# Altium footprint library VioletofSun.PcbLib: 319 footprints (part 15 of 20)
Each footprint in its own frame and in the unit in brackets; x right, y up, seen from the top. Pads: shape width x height; smd on the part's side, far side on the other; paste and mask are expansions set on the pad; w line width, h text height; cw(c..) or ccw(c..) is an arc to the next point about the centre after c.
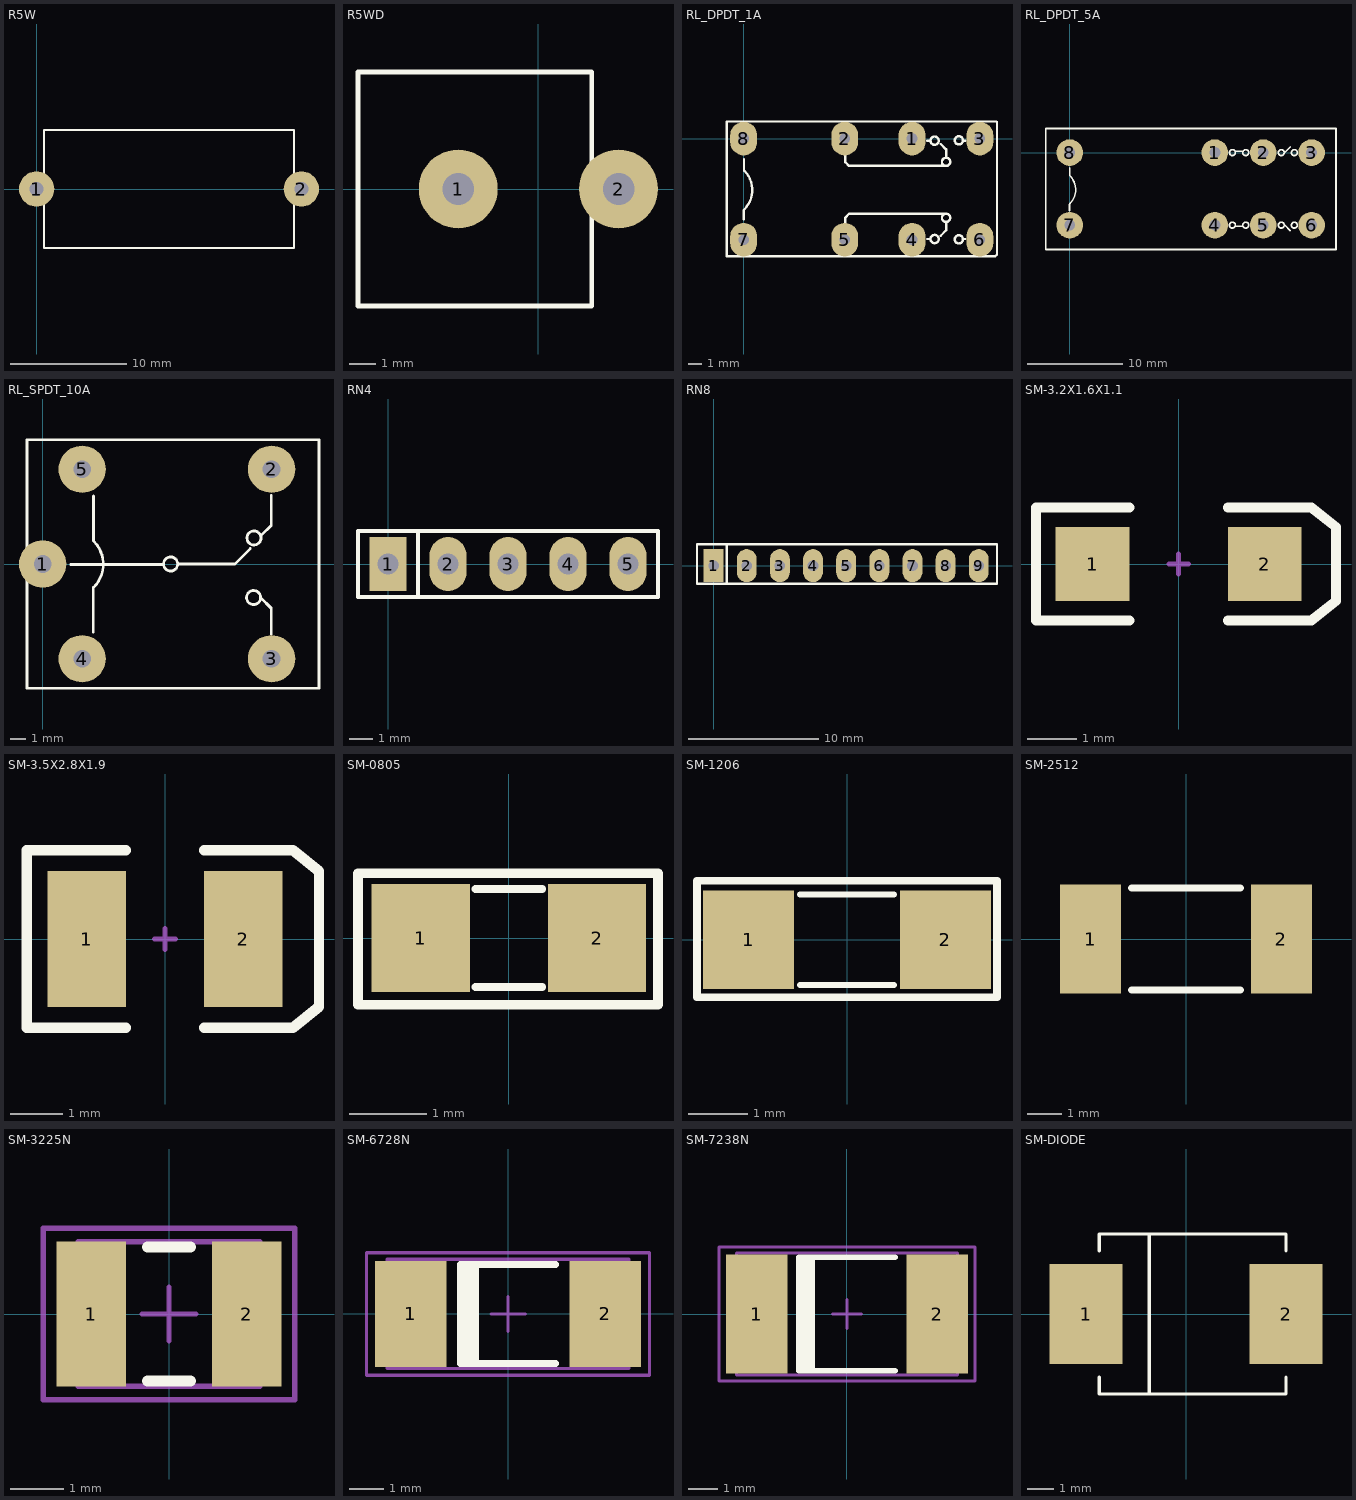
[diagram p14: the footprints below, top view; thin cyan lines are the x and y axes]

## R5W [mil] "R5W , 2 pin, 400 x 950mil"
height 400
pads (2):
  round 120 hole 47.24: 1(0,0) 2(900,0)
Top Overlay:
  lines w7: 25,-200 875,-200 875,200 25,200 25,-200
3D body: height 362.6, standoff -98.43, extent -84.69,-190 954.68,191.89

## R5WD [mm] "R5W , 2 pin, 300 x 600 mil"
height 10.16
pads (2):
  round 3 hole 1.2: 1(-3.048,0) 2(3.048,0)
Top Overlay:
  lines w0.178: -6.858,-4.445 -6.858,4.445 2.032,4.445 2.032,-4.445 -6.858,-4.445
3D body: height 23.05, standoff -2.4, extent -8.648,-5.08 4.432,4.92

## RL_DPDT_1A [mil] "Reley DPDT, 8 pin, 1A, W400mil, L800mil,H 300mil"
height 300
pads (8):
  oval 80x100 hole 32: 1(500,0) 2(300,0) 3(701,0) 4(500,-300) 5(300,-300) 6(701,-300) 7(0,-300) 8(0,0)
Top Overlay:
  circle w7: c638.76,-5 r12.24
  circle w7: c566.76,-6 r12.24
  circle w7: c600.76,-69 r12.24
  circle w7: c600.76,-235 r12.24
  circle w7: c566.76,-298 r12.24
  circle w7: c638.76,-299 r12.24
  lines w7: 0,-239 0,-212 ; 1,-211 ccw(c-56.5,-152.5) 2,-95 ; 1,-94 1,-61 ; 302,-255 302,-234 313,-223 599,-223 ; 302,-42 302,-70 313,-81 599,-81 ; 544,-298 552,-298 ; 544,-6 552,-6 ; 585,-288 601,-272 601,-249 ; 585,-16 601,-32 601,-55 ; 653,-298 658,-298 ; 653,-6 658,-6 ; -50,-349 747,-349 752,-344 752,49 750,51 -50,51 -50,-349
3D body: height 484.25, standoff -118.11, extent -59.45,-340 759.45,45.83

## RL_DPDT_5A [mil] "Reley DPDT, 8 pin, 5A, W500mil, L1100mil,H 950mil"
height 300
pads (8):
  round 110 hole 45: 1(600,0) 2(800,0) 3(1000,0) 4(600,-300) 5(800,-300) 6(1000,-300) 7(0,-300) 8(0,0)
Top Overlay:
  circle w7: c928.76,0 r12.24
  circle w7: c874.76,0 r12.24
  circle w7: c727.76,0 r12.24
  circle w7: c672.76,0 r12.24
  circle w7: c672.76,-300 r12.24
  circle w7: c727.76,-300 r12.24
  circle w7: c874.76,-300 r12.24
  circle w7: c928.76,-300 r12.24
  lines w7: -1,-240 -1,-213 ; 0,-212 ccw(c-57.5,-153.5) 1,-96 ; 0,-95 0,-62 ; 687,-305 716,-305 ; 687,5 716,5 ; 888,-299 912,-323 ; 888,-1 912,23 ; -99,-401 -99,100 1101,100 1101,-401 -99,-401

## RL_SPDT_10A [mil] "Relay SPDT, 5 pin, 10A,W 650mil, L 800mil, H 800mil"
height 800
pads (5):
  round 120 hole 45: 1(0,0) 2(580,240) 3(580,-240) 4(100,-240) 5(100,240)
Top Overlay:
  circle w7: c534.2,-85 r17.8
  circle w7: c535.2,66 r17.8
  circle w7: c324.2,0 r17.8
  lines w7: 71,-1 304,-1 ; 128,-173 128,-60 ; 129,-59 ccw(c71.5,-0.5) 130,57 ; 129,58 129,172 ; 344,0 487,0 526,39 ; 552,-85 579,-112 579,-178 ; 553,72 579,98 579,174 ; -40,-315 -40,315 700,315 700,-315 -40,-315

## RN4 [mil] "R SIP4, 5 Pin"
height 200
pads (5):
  rect 62x90 hole 35: 1(0,0)
  oval 62x90 hole 35: 2(100,0) 3(200,0) 4(300,0) 5(400,0)
Top Overlay:
  lines w7: 50,-55 50,55 ; -50,-55 450,-55 450,55 -50,55 -50,-55

## RN8 [mil] "R SIP8, 9 Pin"
height 200
pads (9):
  rect 60x100 hole 32: 1(0,0)
  oval 60x100 hole 32: 2(100,0) 3(200,0) 4(300,0) 5(400,0) 6(500,0) 7(600,0) 8(700,0) 9(800,0)
Top Overlay:
  lines w7: 40,-55 40,65 ; -50,-55 -50,65 855,65 855,-55 -50,-55
3D body: height 259.29, standoff -75.35, extent -42.91,-44.21 842.91,5

## SM-3.2X1.6X1.1 [mm] "SMT LED; 2 Flat Leads"
height 1.2
pads (2):
  rect 1.5x1.5 smd: 1(-1.75,0) 2(1.75,0)
Top Overlay:
  lines w0.2: -1,-1.15 -2.9,-1.15 -2.9,1.15 -1,1.15 ; 1,-1.15 2.7,-1.15 3.2,-0.75 3.2,0.75 2.7,1.15 1,1.15
Mechanical 1:
  lines w0.1: -0.2,0 0.2,0 ; 0,-0.2 0,0.2
3D body: height 0.53, standoff -0.03, extent -1.473,-0.889 1.727,0.771

## SM-3.5X2.8X1.9 [mm] "SM LED; 2 C-Bend Leads; Body 3.5 x 2.8 x 1.9 mm, inc leads (LxWxH typ)"
height 1.9
pads (2):
  rect 1.5x2.6 smd: 1(-1.5,0) 2(1.5,0)
Top Overlay:
  lines w0.2: -0.75,-1.7 -2.65,-1.7 -2.65,1.7 -0.75,1.7 ; 0.75,-1.7 2.45,-1.7 2.95,-1.3 2.95,1.3 2.45,1.7 0.75,1.7
Mechanical 1:
  lines w0.1: -0.2,0 0.2,0 ; 0,-0.2 0,0.2

## SM-0805 [mil] "Compoment SMD 80x50mil"
height 50
pads (2):
  rect 50x55 smd: 1(-45,0) 2(45,0)
Top Overlay:
  lines w4: -17,-25 17,-25 ; -17,25 17,25
  lines w5: -77,-34 -77,33 76,33 76,-34 -77,-34
3D body: height 24.02, standoff -0.39, extent -39.76,-25 39.76,25

## SM-1206 [mil] "Compoment SMD 120x60mil"
height 50
pads (2):
  rect 60x65 smd: 1(-65,0) 2(65,0)
Top Overlay:
  lines w4: -31,-30 31,-30 ; -31,30 31,30
  lines w5: -99,-38 -99,39 99,39 99,-38 -99,-38
3D body: height 24.79, standoff 0, extent -82.68,-35 82.68,35.87

## SM-2512 [mm] "Chip Resistor; Body 6.3 x 3.2 mm (LxW typ) - C"
height 0.6
pads (2):
  rect 1.8x3.2 smd: 1(-2.8,0) 2(2.8,0)
Top Overlay:
  lines w0.2: -1.6,-1.5 1.6,-1.5 ; -1.6,1.5 1.6,1.5

## SM-3225N [mm] "Chip Capacitor, Body 3.2x2.5mm, IPC Medium Density"
height 1.35
pads (2):
  rect 1.3x2.7 smd: 1(-1.45,0) 2(1.45,0)
Top Overlay:
  lines w0.2: -0.4,-1.25 0.4,-1.25 ; -0.4,1.25 0.4,1.25
Mechanical 13:
  lines w0.1: -1.7,-1.35 1.7,-1.35 1.7,1.35 -1.7,1.35 -1.7,-1.35
Mechanical 15:
  lines w0.1: -0.5,0 0.5,0 ; 0,-0.5 0,0.5 ; -2.35,-1.6 2.35,-1.6 2.35,1.6 -2.35,1.6 -2.35,-1.6
3D body: height 1.35, standoff 0, extent -1.7,-1.35 1.7,1.35

## SM-6728N [mm] "Chip Capacitor, Body 6.7x2.8mm, IPC Medium Density"
height 3.18
pads (2):
  rect 2.1x3.1 smd: 1(-2.85,0) 2(2.85,0)
Top Overlay:
  rectangle: -1.4,-1.45 -0.85,1.45
  lines w0.2: 1.4,-1.45 -1.4,-1.45 -1.4,1.45 1.4,1.45
Mechanical 13:
  lines w0.1: -3.55,-1.6 -3.55,1.6 3.55,1.6 3.55,-1.6 -3.55,-1.6
Mechanical 15:
  lines w0.1: -0.5,0 0.5,0 ; 0,-0.5 0,0.5 ; -4.15,-1.8 -4.15,1.8 4.15,1.8 4.15,-1.8 -4.15,-1.8
3D body: height 3.18, standoff 0, extent -3.55,-1.6 3.55,1.6

## SM-7238N [mm] "Chip Capacitor, Body 7.2x3.8mm, IPC Medium Density"
height 3.18
pads (2):
  rect 2.1x4.1 smd: 1(-3.1,0) 2(3.1,0)
Top Overlay:
  rectangle: -1.65,-1.95 -1.1,1.95
  lines w0.2: 1.65,-1.95 -1.65,-1.95 -1.65,1.95 1.65,1.95
Mechanical 13:
  lines w0.1: -3.8,-2.1 -3.8,2.1 3.8,2.1 3.8,-2.1 -3.8,-2.1
Mechanical 15:
  lines w0.1: -0.5,0 0.5,0 ; 0,-0.5 0,0.5 ; -4.4,-2.3 -4.4,2.3 4.4,2.3 4.4,-2.3 -4.4,-2.3
3D body: height 3.18, standoff 0, extent -3.8,-2.1 3.8,2.1

## SM-DIODE [mil] "Magnetic-Core Inductor with Winding Polarity Marking; 2 Leads"
pads (2):
  rect 110x150 smd: 1(-150,0) 2(150,0)
Top Overlay:
  lines w5: -130,-95 -130,-120 150,-120 150,-95 ; -130,95 -130,120 150,120 150,95 ; -55,-120 -55,120
Mechanical 1:
  lines w1: -130,-120 150,-120 ; -130,120 150,120